# EAGLE library part MAX3393E (library toyotune)
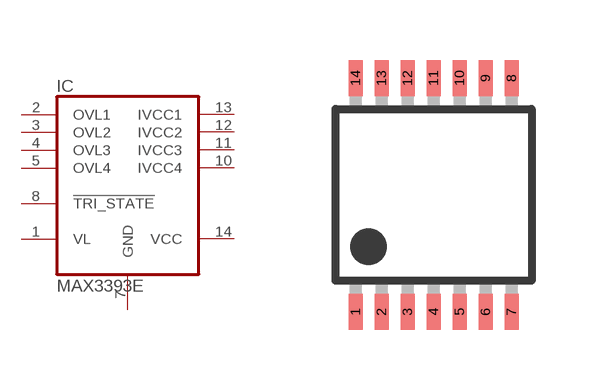
[diagram p56: symbol with the pads of TSSOP14; footprint TSSOP14]

Designator prefix IC

## MAX3393E  [TSSOP14]
1  VL  pwr
2  OVL1  out
3  OVL2  out
4  OVL3  out
5  OVL4  out
7  GND  pwr
8  !TRI_STATE  in
10  IVCC4  in
11  IVCC3  in
12  IVCC2  in
13  IVCC1  in
14  VCC  pwr

## Footprint TSSOP14 (pad centres in mm)
plastic thin shrink small outline package; 14 leads; body width 4.4 mm SOT402-1 Source: http://www.nxp.com/documents/data_sheet/74ABT125.pdf
smd 0.35 x 0.9: 1 -1.95,-2.925; 2 -1.3,-2.925; 3 -0.65,-2.925; 4 0,-2.925; 5 0.65,-2.925; 6 1.3,-2.925; 7 1.95,-2.925; 8 1.95,2.925; 9 1.3,2.925; 10 0.65,2.925; 11 0,2.925; 12 -0.65,2.925; 13 -1.3,2.925; 14 -1.95,2.925